# Altium footprint library AG.Electromechanical.PcbLib: 15 footprints
Each footprint in its own frame and in the unit in brackets; x right, y up, seen from the top. Pads: shape width x height; smd on the part's side, far side on the other; paste and mask are expansions set on the pad; w line width, h text height; cw(c..) or ccw(c..) is an arc to the next point about the centre after c.
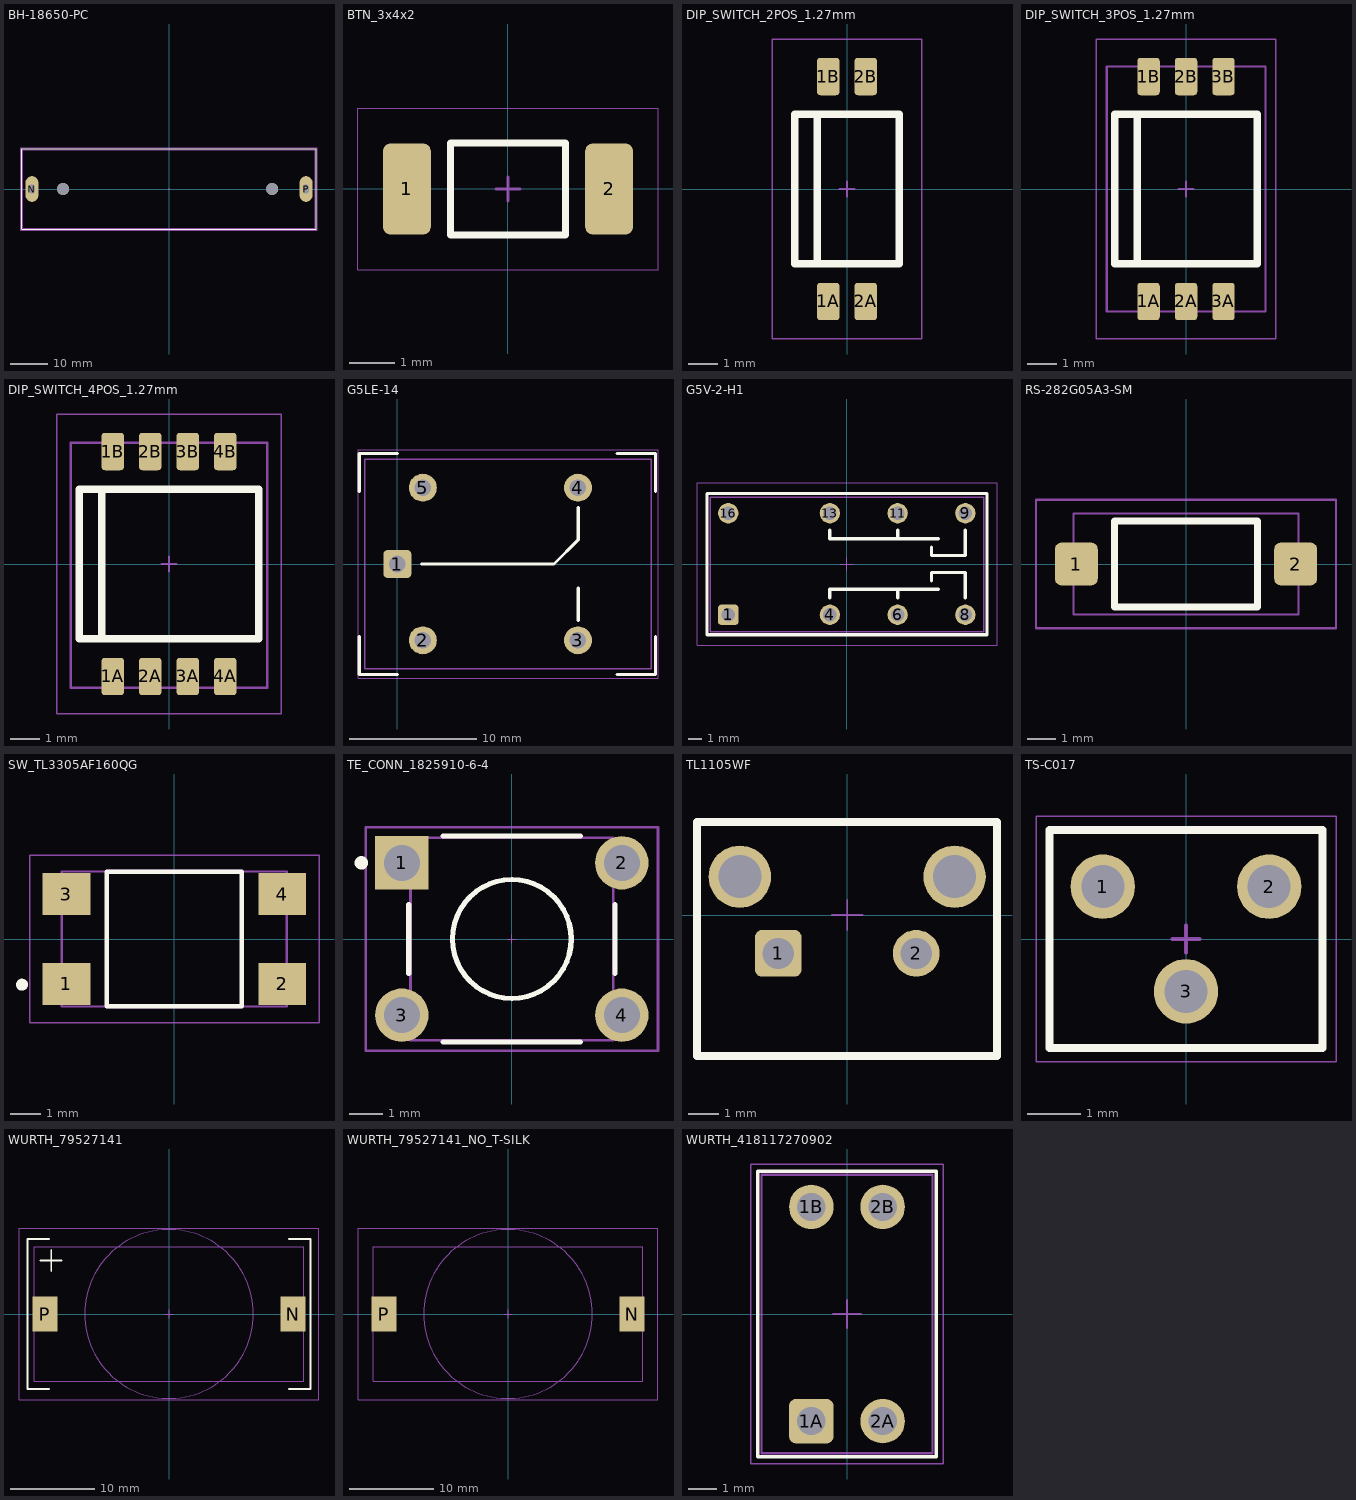
[diagram p0: the footprints below, top view; thin cyan lines are the x and y axes]

## BH-18650-PC [mm] "MPD's 18650 Battery Holder Through-Hole"
height 21.31
pads (4):
  oval 3.44x6.88 hole 1.38 slot 2.4 at 90 deg: N(-36.45,0) P(36.45,0)
  round 3.2 hole 3.2 unplated: ""(-28.17,0) ""(27.44,0)
Top Overlay:
  lines w0.152: -39.116,-10.668 39.116,-10.668 39.116,10.668 -39.116,10.668 -39.116,-10.668
Mechanical 13:
  lines w0.127: -38.85,-10.45 38.85,-10.45 38.85,10.45 -38.85,10.45 -38.85,-10.45
Mechanical 15:
  lines w0.076: -0.254,0 0.254,0 ; 0,-0.254 0,0.254 ; -39.37,-10.922 39.37,-10.922 39.37,10.922 -39.37,10.922 -39.37,-10.922
3D body "BH-18650-PC.STEP": height 21.31, standoff -3.3, extent -38.85,-10.45 38.85,10.45

## BTN_3x4x2 [mm] "Switch Micro SMD 3x4x2 mm Unbranded"
pads (2):
  rrect30% 1.05x2 smd: 1(-2.225,0) 2(2.225,0)
Top Overlay:
  lines w0.152: -1.27,-1.016 1.27,-1.016 1.27,1.016 -1.27,1.016 -1.27,-1.016
Mechanical 15:
  lines w0.025: -3.302,-1.778 -3.302,1.778 3.302,1.778 3.302,-1.778 -3.302,-1.778
  lines w0.076: -0.254,0 0.254,0 ; 0,-0.254 0,0.254

## DIP_SWITCH_2POS_1.27mm [mil] "DIP-Switch 2 Positions Pitch 1.27mm DigiKey Part No: 2223-DS05-127-2-02BK-SMT-CT-ND"
height 95.28
pads (4):
  rrect30% 30x50 smd: 1A(-25,-150) 1B(-25,150) 2A(25,-150) 2B(25,150)
Top Overlay:
  lines w10: -40,-100 -40,100 ; -70,-100 70,-100 70,100 -70,100 -70,-100
Mechanical 15:
  lines w2: -100,-200 -100,200 100,200 100,-200 -100,-200
  lines w3: -10,0 10,0 ; 0,-10 0,10
3D body "CUI_DEVICES_DS05-127-2-02BK-SMT-TR.step": height 93.54, standoff -0.94, extent -80,-163.39 81.81,163.38

## DIP_SWITCH_3POS_1.27mm [mil] "DIP-Switch 4 Positions Pitch 1.27mm DigiKey Part No: 2223-DS05-127-2-03BK-SMT-TR-ND"
height 95.28
pads (6):
  rrect30% 30x50 smd: 1A(-50,-150) 1B(-50,150) 2A(0,-150) 2B(0,150) 3A(50,-150) 3B(50,150)
Top Overlay:
  lines w10: -65,-100 -65,100 ; -95,-100 -95,100 95,100 95,-100 -95,-100
Mechanical 13:
  lines w3: -105.81,-163.39 106,-163.39 106,163.38 -105.81,163.38 -105.81,-163.39
Mechanical 15:
  lines w2: -120,-200 120,-200 120,200 -120,200 -120,-200
  lines w3: -10,0 10,0 ; 0,-10 0,10
3D body "CUI_DEVICES_DS05-127-2-03BK-SMT-TR.step": height 93.54, standoff -0.94, extent -105.81,-163.39 106,163.38

## DIP_SWITCH_4POS_1.27mm [mil] "DIP-Switch 4 Positions Pitch 1.27mm DigiKey Part No: 2223-DS05-127-2-04BK-SMT-CT-ND"
height 95.28
pads (8):
  rrect30% 30x50 smd: 1A(-75,-150) 1B(-75,150) 2A(-25,-150) 2B(-25,150) 3A(25,-150) 3B(25,150) 4A(75,-150) 4B(75,150)
Top Overlay:
  lines w10: -90,-100 -90,100 ; -120,-100 120,-100 120,100 -120,100 -120,-100
Mechanical 13:
  lines w3: -130.9,-165 130.9,-165 130.9,161.77 -130.9,161.77 -130.9,-165
Mechanical 15:
  lines w2: -150,-200 -150,200 150,200 150,-200 -150,-200
  lines w3: -10,0 10,0 ; 0,-10 0,10
3D body "CUI_DEVICES_DS05-127-2-04BK-SMT-TR.step": height 93.54, standoff -0.94, extent -130.9,-165 130.91,161.77

## G5LE-14 [mm] "OMRON RELAY GEN PURPOSE SPDT"
height 22.5
pads (5):
  rrect30% 2.2x2.2 hole 1.3: 1(0,0)
  round 2.2 hole 1.3: 2(2,-6) 3(14.2,-6) 4(14.2,6) 5(2,6)
Top Overlay:
  lines w0.254: -3,-5.7 -3,-8.7 0,-8.7 ; -3,5.7 -3,8.7 0,8.7 ; 1.905,0 10.795,0 12.319,0 14.224,1.905 14.224,4.445 ; 14.224,-4.445 14.224,-1.905 ; 17.3,-8.7 20.3,-8.7 20.3,-5.7 ; 17.3,8.7 20.3,8.7 20.3,5.7
Mechanical 13:
  lines w0.1: -2.55,-8.25 -2.55,8.25 19.95,8.25 19.95,-8.25 -2.55,-8.25
Mechanical 15:
  lines w0.05: -3.1,-9 20.5,-9 20.5,9 -3.1,9 -3.1,-9

## G5V-2-H1 [mil] "OMRON Low Signal Relay DPDT [ Compatible with HJR1-2C ]"
height 452.76
pads (8):
  rrect30% 60x60 hole 40: 1(-350,-150)
  round 60 hole 40: 4(-50,-150) 6(150,-150) 8(350,-150) 9(350,150) 11(150,150) 13(-50,150) 16(-350,150)
Top Overlay:
  lines w10: -50,-100 -50,-75 270,-75 ; -50,100 -50,75 270,75 ; 150,-100 150,-75 ; 150,75 150,100 ; 250,-50 250,-25 350,-25 350,-100 ; 250,50 250,25 350,25 350,100 ; -412.99,-209.06 413.78,-209.06 413.78,208.27 -412.99,208.27 -412.99,-209.06
Mechanical 13:
  lines w3.94: -402.99,-200 -402.99,197.64 404.1,197.64 404.1,-200 -402.99,-200
Mechanical 15:
  lines w1.97: -19.68,0 19.69,0 ; 0,-19.68 0,19.68 ; -442.36,-239.37 -442.36,239.37 443.46,239.37 443.46,-239.37 -442.36,-239.37
3D body "G5V_2.step": height 433.07, standoff -157.48, extent -402.99,-200 404.09,197.64

## RS-282G05A3-SM [mil] "SWITCH TACTILE SPST-NO 0.05A 12V"
height 98.43
pads (2):
  rrect30% 60x60 smd: 1(-153.54,0) 2(153.54,0)
Top Overlay:
  lines w10: -100,-60 100,-60 100,60 -100,60 -100,-60
Mechanical 13:
  lines w3: -157.48,-70.86 -157.48,70.87 157.48,70.87 157.48,-70.86 -157.48,-70.86
Mechanical 15:
  lines w3: -210,-90 210,-90 210,90 -210,90 -210,-90
3D body "1181_3.step": height 99.49, standoff 1.06, extent -157.48,-70.86 157.49,70.87

## SW_TL3305AF160QG [mm]
height 3.8
pads (4):
  rect 1.6x1.4 smd: 1(-3.6,-1.5) 2(3.6,-1.5) 3(-3.6,1.5) 4(3.6,1.5)
Top Overlay:
  circle w0.2: c-5.08,-1.524 r0.1
  lines w0.152: -2.25,-2.25 2.25,-2.25 2.25,2.25 -2.25,2.25 -2.25,-2.25
Mechanical 13:
  lines w0.076: -3.75,-2.25 3.75,-2.25 3.75,2.25 -3.75,2.25 -3.75,-2.25
  lines w0.127: -2.25,-2.25 2.25,-2.25 2.25,2.25 -2.25,2.25 -2.25,-2.25
Mechanical 15:
  lines w0.05: -4.826,-2.794 4.826,-2.794 4.826,2.794 -4.826,2.794 -4.826,-2.794
3D body "step_temp.STEP": height 3.81, standoff 0.01, extent -3.75,-2.25 3.75,2.25

## TE_CONN_1825910-6-4 [mil] "Switch Push Button OFF (ON) SPST Round Button 0.05A 24VDC Momentary Contact PC Pins Thru-Hole"
pads (4):
  rect 62x62 hole 42: 1(-127.95,88.58)
  round 62 hole 42: 2(127.95,88.58) 3(-127.95,-88.58) 4(127.95,-88.58)
Top Overlay:
  circle w7.87: c-175,88.58 r3.94
  circle w6: c0,0 r69.09
  lines w6: -120,-40 -120,40 ; -80,-120 80,-120 ; -80,120 80,120 ; 120,-40 120,40
Mechanical 13:
  circle w5: c0,0 r69.09
  lines w3: -117.91,-117.91 117.91,-117.91 117.91,117.91 -117.91,117.91 -117.91,-117.91
Mechanical 15:
  lines w1: -5,0 5,0 ; 0,-5 0,5
  lines w3: -170,-130 170,-130 170,130 -170,130 -170,-130
3D body "TE_CONN_1825910-6.STEP": height 197.75, standoff -137.69, extent -153.45,-117.91 153.54,117.92

## TL1105WF [mil] "E-Switch TL1105 Right Angle 6x6 Tact Switch Series (H=7mm) [ Compatible with KLS7-TS6606 ]"
height 433.07
pads (4):
  rrect30% 60x60 hole 40: 1(-88.58,-49.21)
  round 60 hole 40: 2(88.58,-49.21)
  round 80 hole 55: ""(-137.8,49.21) ""(137.8,49.21)
Top Overlay:
  lines w10: -192.8,-180.79 -182.8,-180.79 192.2,-180.79 192.2,119.21 -192.8,119.21 -192.8,-180.79
Mechanical 15:
  lines w1.97: -19.68,0 19.69,0 ; 0,-19.68 0,19.68
3D body "TL1105WF.stp": height 287.4, standoff -145.67, extent -165.8,-171.53 164.77,109.96

## TS-C017 [mm] "Button Side Micro 4.5x4.5x3 mm 3 Pin"
pads (3):
  round 1.2 hole 0.8: 1(-1.55,0.975) 2(1.55,0.975) 3(0,-0.975)
Top Overlay:
  lines w0.152: -2.54,-2.032 -2.54,2.032 2.54,2.032 2.54,-2.032 -2.54,-2.032
Mechanical 15:
  lines w0.025: -2.794,-2.286 -2.794,2.286 2.794,2.286 2.794,-2.286 -2.794,-2.286
  lines w0.076: -0.254,0 0.254,0 ; 0,-0.254 0,0.254

## WURTH_79527141 [mm] "BATT HOLDER COIN 20MM 1 CELL SMD"
pads (2):
  rect 3x4.2 smd: N(14.7,0) P(-14.7,0)
Top Overlay:
  lines w0.203: -15.24,6.35 -12.7,6.35 ; -14.224,-8.89 -16.764,-8.89 -16.764,8.89 -14.224,8.89 ; -13.97,5.08 -13.97,7.62 ; 14.224,-8.89 16.764,-8.89 16.764,8.89 14.224,8.89
Mechanical 13:
  circle w0.076: c0,0 r10
  lines w0.127: -15.95,-8 15.95,-8 15.95,8 -15.95,8 -15.95,-8
Mechanical 15:
  lines w0.076: -0.508,0 0.508,0 ; 0,-0.508 0,0.508 ; -17.78,-10.16 -17.78,10.16 17.78,10.16 17.78,-10.16 -17.78,-10.16
3D body "WURTH_79527141.stp": height 5.66, standoff 0.01, extent -15.95,-8 15.95,8

## WURTH_79527141_NO_T-SILK [mm] "BATT HOLDER COIN 20MM 1 CELL SMD"
pads (2):
  rect 3x4.2 smd: N(14.7,0) P(-14.7,0)
Mechanical 13:
  circle w0.076: c0,0 r10
  lines w0.127: -15.95,-8 -15.95,8 15.95,8 15.95,-8 -15.95,-8
Mechanical 15:
  lines w0.076: -0.508,0 0.508,0 ; 0,-0.508 0,0.508 ; -17.78,-10.16 17.78,-10.16 17.78,10.16 -17.78,10.16 -17.78,-10.16
3D body "WURTH_79527141.stp": height 5.66, standoff 0.01, extent -15.95,-8 15.95,8

## WURTH_418117270902 [mm] "DIP SWITCH SPST 2.54 PITCH RA"
height 6.7
pads (4):
  rrect30% 1.58x1.58 hole 1: 1A(-1.27,-3.81)
  round 1.58 hole 1: 1B(-1.27,3.81) 2A(1.27,-3.81) 2B(1.27,3.81)
Top Overlay:
  lines w0.127: -3.175,-5.08 -3.175,5.08 3.175,5.08 3.175,-5.08 -3.175,-5.08
Mechanical 13:
  lines w0.076: -3.04,-4.95 -3.04,4.95 3.04,4.95 3.04,-4.95 -3.04,-4.95
Mechanical 15:
  lines w0.05: -3.429,-5.334 -3.429,5.334 3.429,5.334 3.429,-5.334 -3.429,-5.334
  lines w0.076: -0.5,0 0.5,0 ; 0,-0.5 0,0.5
3D body "418117270902_Download_STP_418117270902_rev1.stp": height 6.45, standoff -4.1, extent -3.04,-4.95 3.04,4.95